# Altium schematic symbol library TMDX654GPEVM.SCHLIB: 339 symbols (part 4 of 6)
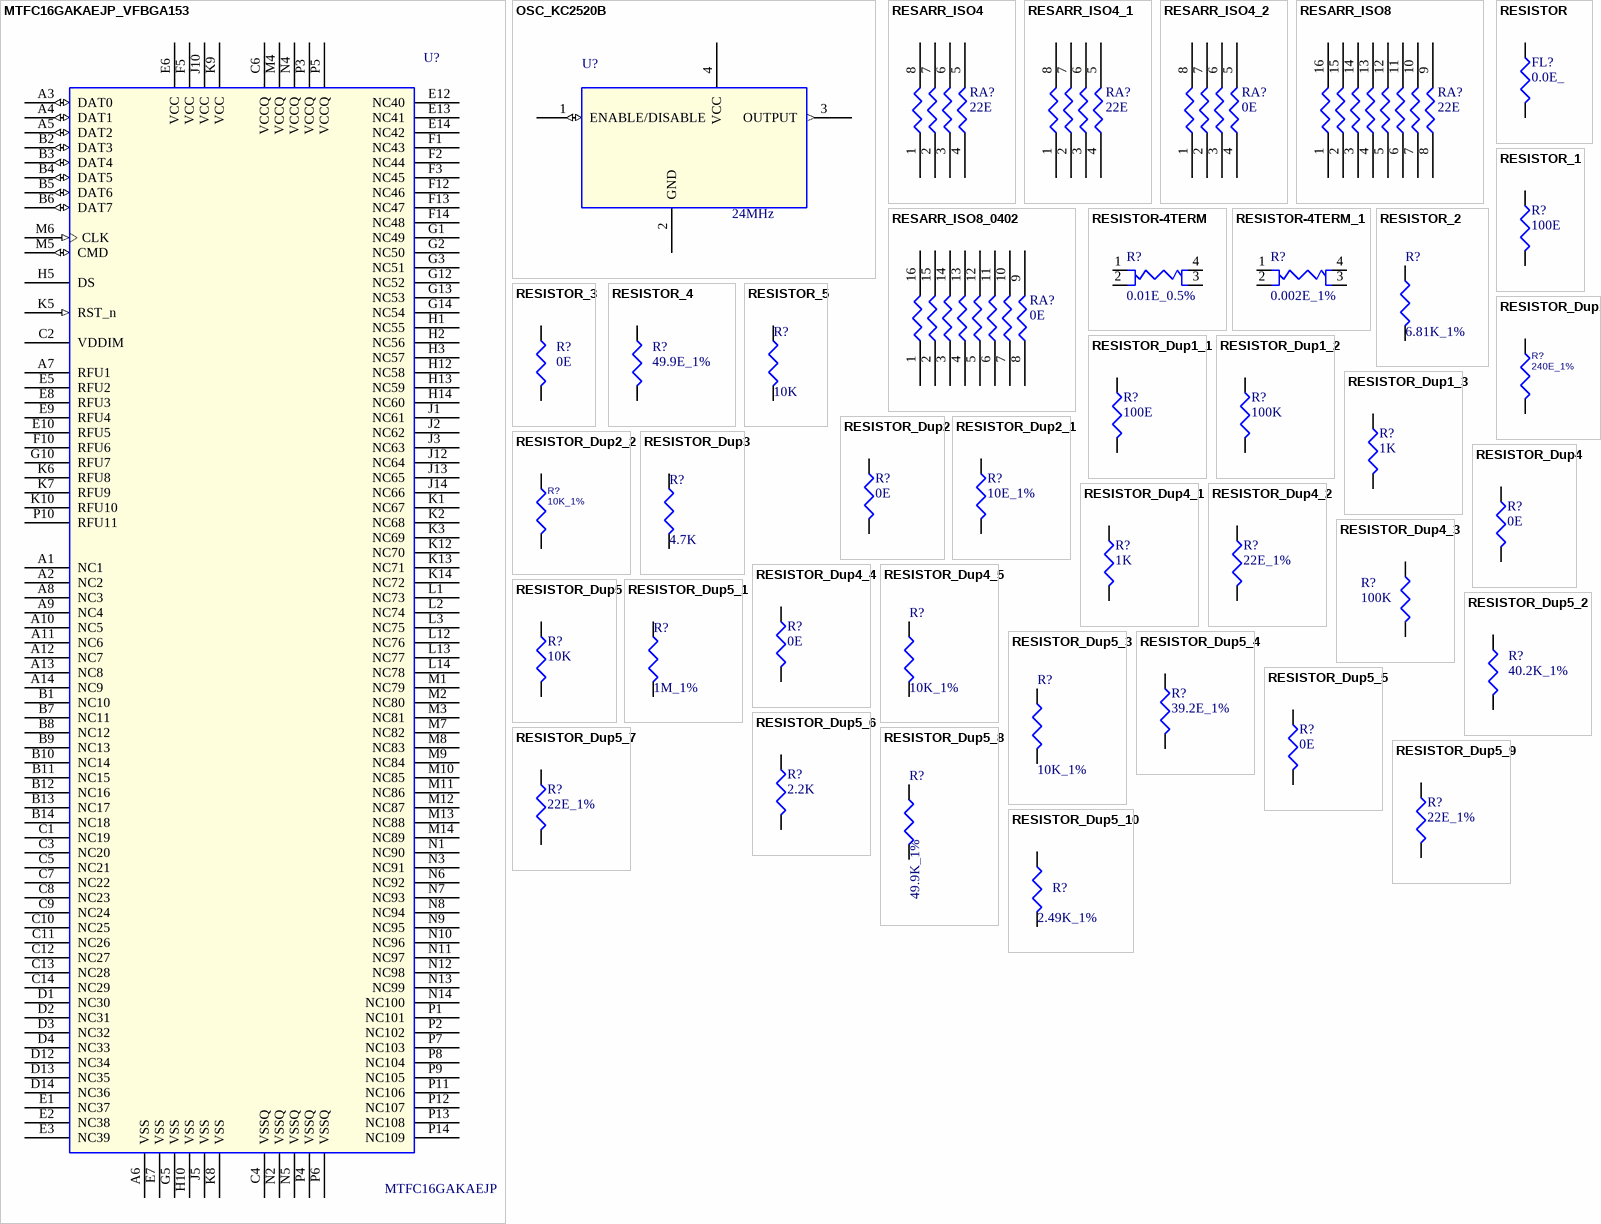
[diagram p23: symbols MTFC16GAKAEJP_VFBGA153 to RESISTOR_Dup5_10]

## MTFC16GAKAEJP_VFBGA153
designator U?, comment MTFC16GAKAEJP
IC 16GB E-MMC MEMORY VFBGA153; Mistral Part No: 141118010003-R; Mfr_name: MICRON; Mfr_part_number: MTFC16GAKAEJP-4M IT; Part_type: ICS\DIGITAL\MEMORY; Project: TI_SVB_MAXWELL_DUT; Tolerance: NA; Customs_HS_Code: 85423100; Custom_Duty: 15%; MECHANICAL 3D STEP FILE: VFBGA153_19-68_460X520_1-2; Library Ref: MTFC16GAKAEJP_VFBGA153; Voltage: NA; Wattage: NA; Package: VFBGA153; Distributor_name: DIGIKEY; Distributor_part_number: MTFC16GAKAEJP-4M IT-ND; Height: 1.20MM; Weight: NA; Temperature: -40°C+85°C; Datasheet: Y:\MIS_DATABASE\DATASHEETS\ICS\MEMORY\MTFCXXGAXX.PDF; Crtd /date: MANIRAJA/120118; Chkd/date: MANIRAJA/120118; PCB Footprint: VFBGA153_19-68_460X520_1-2
footprint VFBGA153_19-68_460X520_1-2
pins: A1 NC1, A2 NC2, A3 DAT0 (io), A4 DAT1 (io), A5 DAT2 (io), A6 VSS (power), A7 RFU1, A8 NC3, A9 NC4, A10 NC5, A11 NC6, A12 NC7, A13 NC8, A14 NC9, B1 NC10, B2 DAT3 (io), B3 DAT4 (io), B4 DAT5 (io), B5 DAT6 (io), B6 DAT7 (io), B7 NC11, B8 NC12, B9 NC13, B10 NC14, B11 NC15, B12 NC16, B13 NC17, B14 NC18, C1 NC19, C2 VDDIM, C3 NC20, C4 VSSQ (power), C5 NC21, C6 VCCQ (power), C7 NC22, C8 NC23, C9 NC24, C10 NC25, C11 NC26, C12 NC27, C13 NC28, C14 NC29, D1 NC30, D2 NC31, D3 NC32, D4 NC33, D12 NC34, D13 NC35, D14 NC36, E1 NC37, E2 NC38, E3 NC39, E5 RFU2, E6 VCC (power), E7 VSS (power), E8 RFU3, E9 RFU4, E10 RFU5, E12 NC40, E13 NC41, E14 NC42, F1 NC43, F2 NC44, F3 NC45, F5 VCC (power), F10 RFU6, F12 NC46, F13 NC47, F14 NC48, G1 NC49, G2 NC50, G3 NC51, G5 VSS (power), G10 RFU7, G12 NC52, G13 NC53, G14 NC54, H1 NC55, H2 NC56, H3 NC57, H5 DS, H10 VSS (power), H12 NC58, H13 NC59, H14 NC60, J1 NC61, J2 NC62, J3 NC63, J5 VSS (power), J10 VCC (power), J12 NC64, J13 NC65, J14 NC66, K1 NC67, K2 NC68, K3 NC69, K5 RST_n (in), K6 RFU8, K7 RFU9, K8 VSS (power), K9 VCC (power), K10 RFU10, K12 NC70, K13 NC71, K14 NC72, L1 NC73, L2 NC74, L3 NC75, L12 NC76, L13 NC77, L14 NC78, M1 NC79, M2 NC80, M3 NC81, M4 VCCQ (power), M5 CMD (io), M6 CLK (in), M7 NC82, M8 NC83, M9 NC84, M10 NC85, M11 NC86, M12 NC87, M13 NC88, M14 NC89, N1 NC90, N2 VSSQ (power), N3 NC91, N4 VCCQ (power), N5 VSSQ (power), N6 NC92, N7 NC93, N8 NC94, N9 NC95, N10 NC96, N11 NC97, N12 NC98, N13 NC99, N14 NC100, P1 NC101, P2 NC102, P3 VCCQ (power), P4 VSSQ (power), P5 VCCQ (power), P6 VSSQ (power), P7 NC103, P8 NC104, P9 NC105, P10 RFU11, P11 NC106, P12 NC107, P13 NC108, P14 NC109

## OSC_KC2520B
designator U?, comment 24MHz
OSC 24MHz 1.8V SMD; Mistral Part No: 130015030022-R; Mfr_name: KYOCERA; Mfr_part_number: KC2520B24.0000C1GE00; Part_type: OSCILLATORS; Project: DLRL; Tolerance: NA; Customs_HS_Code: 85437099; Custom_Duty: 24%; PCB Footprint: OSC4_KC2520B_100X80_SMD; Voltage: NA; Wattage: NA; Package: SMD; Distributor_name: DIGIKEY; Distributor_part_number: 1253-1244-1-ND; Height: 0.70MM; Weight: NA; Temperature: -40°C+85°C; Datasheet: Y:\MIS_DATABASE\DATASHEETS\MISC\CRY_OSC\KC2520B2.PDF; Crtd /date: JEBRAN/310315; Chkd/date: NAVEED/080415; Library Ref: OSC_KC2520B
footprint OSC4_KC2520B_100X80_SMD
pins: 1 ENABLE/DISABLE (io), 2 GND (power), 3 OUTPUT (out), 4 VCC (power)

## RESARR_ISO4
designator RA?, comment 22E
RES ARRAY 22E 31mW 5% 0402; Part_type: RESISTORS\ARRAY; Mfr_part_number: EXB-28V220JX; Mfr_name: PANASONIC-ECG; Mistral Part No: 110009030021-R; PCB Footprint: RESA_EXB28V_0402-4_0-5; Voltage: NA; Project: KHAN_MAIN; SIGNAL_MODEL: RESA1; Library Ref: RESARR_ISO4; MECHANICAL 3D STEP FILE: RESA_EXB28V_0402-4_0-5; Chkd/date: MAZHAR/291208; Crtd /date: USMAN/261108; Datasheet: Y:\MIS_DATABASE\DATASHEETS\RESISTORS\EXB-2HV.PDF; Temperature: -55°C+125°C; Weight: 2mg; Height: 0.45MM; Distributor_part_number: Y7220CT-ND; Distributor_name: DIGIKEY; Package: 0402; Wattage: 31mW; Tolerance: 5%
footprint RESA_EXB28V_0402-4_0-5
pins: 1, 2, 3, 4, 5, 6, 7, 8

## RESARR_ISO4_1
designator RA?, comment 22E
RES ARRAY 22E 31mW 5% 0402; Part_type: RESISTORS\ARRAY; Mfr_part_number: EXB-28V220JX; Mfr_name: PANASONIC-ECG; Mistral Part No: 110009030021-R; MECHANICAL 3D STEP FILE: RESA_EXB28V_0402-4_0-5; Voltage: NA; Project: KHAN_MAIN; Library Ref: RESARR_ISO4; Chkd/date: MAZHAR/291208; Crtd /date: USMAN/261108; Datasheet: Y:\MIS_DATABASE\DATASHEETS\RESISTORS\EXB-2HV.PDF; Temperature: -55°C+125°C; Weight: 2mg; Height: 0.45MM; Distributor_part_number: Y7220CT-ND; Distributor_name: DIGIKEY; Package: 0402; Wattage: 31mW; Tolerance: 5%; PCB Footprint: RESA_EXB28V_0402-4_0-5
footprint RESA_EXB28V_0402-4_0-5
pins: 1, 2, 3, 4, 5, 6, 7, 8

## RESARR_ISO4_2
designator RA?, comment 0E
RES ARRAY 0E 31mW 0402-4; Part_type: RESISTORS\ARRAY; Mfr_part_number: EXB-N8VR000X; Mfr_name: PANASONIC-ECG; Mistral Part No: 110009030002-R; MECHANICAL 3D STEP FILE: RESA_EXBN8V_0402-4_0-6; Tolerance: NA; Project: AXON; Chkd/date: MANIRAJA/161017; Crtd /date: USMAN/190209; Datasheet: Y:\MIS_DATABASE\DATASHEETS\RESISTORS\EXB-X.PDF; Temperature: -55°C+125°C; Weight: 3mg; Height: 0.55MM; Distributor_part_number: Y10000CT-ND; Distributor_name: DIGIKEY; Package: 0402-4; Wattage: 31mW; Voltage: NA; PCB Footprint: RESA_EXBN8V_0402-4_0-6; Library Ref: RESARR_ISO4
footprint RESA_EXBN8V_0402-4_0-6
pins: 1, 2, 3, 4, 5, 6, 7, 8

## RESARR_ISO8
designator RA?, comment 22E
RES ARRAY 22E 62.5mW 5% 0402; Mistral Part No: 110009030020-R; Mfr_name: CTS; Mfr_part_number: 741X163220JP; Part_type: RESISTORS\ARRAY; SIGNAL_MODEL: RESARR_ISO8_RESA_0402-8_22E_22E; Project: CPB; Wattage: 63mW; PCB Footprint: RESA_0402-8; Library Ref: RESARR_ISO8; Tolerance: 5%; Package: 0402; Distributor_name: DIGIKEY; Distributor_part_number: 741X163220JPCT-ND; Height: 0.55MM; Datasheet: Y:\MIS_DATABASE\DATASHEETS\RESISTORS\741-6SER.PDF; Crtd /date: USMAN/040908; Chkd/date: MAZHAR/040809
footprint RESA_0402-8
pins: 1, 2, 3, 4, 5, 6, 7, 8, 9, 10, 11, 12, 13, 14, 15, 16

## RESARR_ISO8_0402
designator RA?, comment 0E
RES ARRAY 8 0E 0402; Part_type: RESISTORS\ARRAY; Mfr_part_number: EXB-2HVR000V; Mfr_name: PANASONIC-ECG; Mistral Part No: 110009030004-R; SIGNAL_MODEL: RESA; Project: V12SFP; PCB Footprint: RESA_0402-8; Library Ref: RESARR_ISO8_0402; Chkd/date: SHREESHAIL/121205; Crtd /date: MAZHAR/300505; Datasheet: Y:\MIS_DATABASE\DATASHEETS\RESISTORS\EXB-2HV.PDF; Height: 0.55MM; Distributor_part_number: Y1000CT-ND; Distributor_name: DIGIKEY; Package: 0402
footprint RESA_0402-8
pins: 1, 2, 3, 4, 5, 6, 7, 8, 9, 10, 11, 12, 13, 14, 15, 16

## RESISTOR
designator FL?, comment 0.0E_
RES 0.0E 1/10W 0603; Mistral Part No: 110010020006-P; Mfr_name: VISHAY; Mfr_part_number: CRCW06030000Z0EA; Part_type: RESISTORS\FIXED; Project: NPOL_CONTROLLERCARD; Voltage: 50V; Customs_HS_Code: 85332119; Custom_Duty: 15%; PCB Footprint: RES0603; Wattage: 1/10W; Package: 0603; Distributor_name: DIGIKEY; Distributor_part_number: 541-0.0GCT-ND; Library Ref: RESISTOR; Height: 0.55MM; Weight: 2g/1000pcs; Temperature: -55°C+125°C; Datasheet: Y:\MIS_DATABASE\DATASHEETS\RESISTORS\CRCW.PDF; Crtd /date: MUDDU/050210; Chkd/date: SUHAS/230910; RoHS: Pb-Free
footprint RES0603
pins: 1, 2

## RESISTOR-4TERM
designator R?, comment 0.01E_0.5%
RES 0.01E 1/2W 0.5% 4-TERM1206; Part_type: RESISTORS\FIXED; Mfr_part_number: LVK12R010DER; Mfr_name: OHMITE; Mistral Part No: 110017090009-R; PCB Footprint: RES1206-4TERM_0-75; Custom_Duty: 15%; Customs_HS_Code: 85332119; Voltage: NA; Project: TI_MAXIE_CPB; MECHANICAL 3D STEP FILE: RES1206-4TERM_0-75; Chkd/date: MANIRAJA/260917; Crtd /date: MANIRAJA/260917; Datasheet: Y:\MIS_DATABASE\DATASHEETS\RESISTORS\LVK-SERIES.PDF; Temperature: -40°C+125°C; Weight: 16.2mg; Height: 0.65MM; Distributor_part_number: LVK12R010DERCT-ND; Distributor_name: DIGIKEY; Package: 1206-4TERM; Wattage: 1/2W; Tolerance: 0.5%; Library Ref: RESISTOR-4TERM
footprint RES1206-4TERM_0-75
pins: 1, 2, 3, 4

## RESISTOR-4TERM_1
designator R?, comment 0.002E_1%
RES 0.002E 2W 1% 4-TERM2512; Mistral Part No: 110017090010-R; Mfr_name: OHMITE; Mfr_part_number: LVK25R002FER; Part_type: RESISTORS\FIXED; PCB Footprint: RES2512-4TERM_0-75; Project: TI_MAXIE_CPB; Voltage: NA; Customs_HS_Code: 85332119; Custom_Duty: 15%; Tolerance: 1%; Wattage: 2W; Package: 2512-4TERM; Distributor_name: DIGIKEY; Distributor_part_number: LVK25R002FERCT-ND; Height: 0.70MM; Weight: NA; Temperature: -40°C+125°C; Datasheet: Y:\MIS_DATABASE\DATASHEETS\RESISTORS\LVK-SERIES.PDF; Crtd /date: MANIRAJA/260917; Chkd/date: MANIRAJA/260917; MECHANICAL 3D STEP FILE: RES2512-4TERM_0-75; Library Ref: RESISTOR-4TERM
footprint RES2512-4TERM_0-75
pins: 1, 2, 3, 4

## RESISTOR_1
designator R?, comment 100E
RES 100E 1/20W 5% 0201; Part_type: RESISTORS\FIXED; Mfr_part_number: NRC02J101TRF; Mfr_name: NIC COMPONENTS; Mistral Part No: 110010070060-R; PCB Footprint: RES0201; Custom_Duty: 15%; Customs_HS_Code: 85332119; Voltage: 50V; Project: PB_BUGBASE; Library Ref: RESISTOR; Chkd/date: SUHAS/280910; Crtd /date: MUDDU/100710; Datasheet: Y:\MIS_DATABASE\DATASHEETS\RESISTORS\NRC SERIES.PDF; Temperature: -55°C+125°C; Weight: NA; Height: 0.30MM; Distributor_part_number: NA; Distributor_name: NA; Package: 0201; Wattage: 1/20W; Tolerance: 5%
footprint RES0201
pins: 1, 2

## RESISTOR_2
designator R?, comment 6.81K_1%
RES 6.81K 1/16W 1% 0402; Part_type: RESISTORS\FIXED; Mfr_part_number: RC0402FR-076K81L; Mfr_name: YAGEO AMERICA; Mistral Part No: 110017100003-R; PCB Footprint: RES0402_0-5; Custom_Duty: 15%; Customs_HS_Code: 85332119; Voltage: NA; Project: TI_MAXIE_CPB; Library Ref: RESISTOR; MECHANICAL 3D STEP FILE: RES0402_0-5; Chkd/date: VASANTHA/181017; Crtd /date: VASANTHA/181017; Datasheet: Y:\MIS_DATABASE\DATASHEETS\RESISTORS\YAGEO-RC0402.PDF; Temperature: -55°C+155°C; Weight: NA; Height: 0.40MM; Distributor_part_number: 311-6.81KLRCT-ND; Distributor_name: DIGIKEY; Package: 0402; Wattage: 1/16W; Tolerance: 1%
footprint RES0402_0-5
pins: 1, 2

## RESISTOR_3
designator R?, comment 0E
RES 0E 1/16W 0402; Mistral Part No: 110010080019-P; Mfr_name: VISHAY; Mfr_part_number: CRCW04020000Z0ED; Part_type: RESISTORS\FIXED; Project: PB_BUGBASE; Tolerance: NA; Customs_HS_Code: 85332119; Custom_Duty: 15%; MECHANICAL 3D STEP FILE: RES0402_0-5; Voltage: NA; Wattage: 1/16W; Package: 0402; Distributor_name: DIGIKEY; Distributor_part_number: 541-0.0JCT-ND; Height: 0.40MM; Weight: 0.65g/1000pcs; Temperature: -55°C+155°C; Datasheet: Y:\MIS_DATABASE\DATASHEETS\RESISTORS\CRCW0603.PDF; Crtd /date: MUDDU/190810; Chkd/date: VASANTHA/201216; RoHS: Pb-Free; PCB Footprint: RES0402_0-5; Library Ref: RESISTOR; Footprint Ref: RES0402_0-5; Library Path: Y:\MIS_DATABASE\Library\ALTIUM_TOOL\SCHEMATICS_PARTS\MS_DISCRETE_Library.schlib; Footprint Path: Y:\MIS_DATABASE\Library\ALTIUM_TOOL\PCB_FOOTPRINTS\Altium_Footprint_Lib.PcbLib
footprint RES0402_0-5
pins: 1, 2

## RESISTOR_4
designator R?, comment 49.9E_1%
RES 49.9E 1/20W 1% 0201; Part_type: RESISTORS\FIXED; Mfr_part_number: ERJ-1GEF49R9C; Mfr_name: PANASONIC-ECG; Mistral Part No: 110009030893-R; Custom_Duty: 15%; Customs_HS_Code: 85332119; Project: V8TS; PCB Footprint: RES0201; Footprint Path: Y:\MIS_DATABASE\Library\ALTIUM_TOOL\PCB_FOOTPRINTS\Altium_Footprint_Lib.PcbLib; Library Path: Y:\MIS_DATABASE\Library\ALTIUM_TOOL\SCHEMATICS_PARTS\MS_DISCRETE_Library.schlib; Chkd/date: MAZHAR/140709; Crtd /date: MAZHAR/300807; Datasheet: Y:\MIS_DATABASE\DATASHEETS\RESISTORS\ERJ-1G.PDF; Height: 0.26MM; Distributor_part_number: P49.9ABCT-ND; Distributor_name: DIGIKEY; Package: 0201; Wattage: 1/20W; Tolerance: 1%; Library Ref: RESISTOR
footprint RES0201
pins: 1, 2

## RESISTOR_5
designator R?, comment 10K
RES 10K 2/3W 5% 1206; Part_type: RESISTORS\FIXED; Mfr_part_number: ERJ-P08J103V; Mfr_name: PANASONIC; Mistral Part No: 110015090016-R; PCB Footprint: RES1206; Custom_Duty: 15%; Customs_HS_Code: 85332119; Voltage: NA; Project: GALILEO_EVM; Library Ref: RESISTOR; Chkd/date: VASANTHA/101015; Crtd /date: VASANTHA/101015; Datasheet: Y:\MIS_DATABASE\DATASHEETS\RESISTORS\ERJ_SERIES.PDF; Temperature: -55°C+155°C; Weight: 10g/1000pcs; Height: 0.70MM; Distributor_part_number: P10KALCT-ND; Distributor_name: DIGIKEY; Package: 1206; Wattage: 2/3W; Tolerance: 5%
footprint RES1206
pins: 1, 2

## RESISTOR_Dup1
designator R?, comment 240E_1%
RES 240E 1/10W 1% 0402; Mistral Part No: 110011060017-R; Mfr_name: PANASONIC-ECG; Mfr_part_number: ERJ-2RKF2400X; Part_type: RESISTORS\FIXED; Project: AM4515_EVM_LCD; Voltage: NA; Customs_HS_Code: 85332119; Custom_Duty: 15%; PCB Footprint: RES0402; Library Ref: RESISTOR; Tolerance: 1%; Wattage: 1/10W; Package: 0402; Distributor_name: DIGIKEY; Distributor_part_number: P240LCT-ND; Height: 0.40MM; Weight: 0.8/1000g; Temperature: -55°C+125°C; Datasheet: Y:\MIS_DATABASE\DATASHEETS\RESISTORS\ERJ-2R.PDF; Crtd /date: BAVISH/020611; Chkd/date: MAZHAR/150611
footprint RES0402N
footprint RES0402
pins: 1, 2

## RESISTOR_Dup1_1
designator R?, comment 100E
RES 100E 1/16W 5% 0402; Part_type: RESISTORS\FIXED; Mfr_part_number: CRCW0402100RJNED; Mfr_name: VISHAY; Mistral Part No: 110009030164-R; MECHANICAL 3D STEP FILE: RES0402_0-5; Custom_Duty: 15%; Customs_HS_Code: 85332119; Voltage: NA; Project: TI_MAXIE_CPB; Library Ref: RESISTOR; Chkd/date: MANIRAJA/230817; Crtd /date: MANIRAJA/230817; Datasheet: Y:\MIS_DATABASE\DATASHEETS\RESISTORS\CRCW0603.PDF; Temperature: -55°C+155°C; Weight: 0.65mg; Height: 0.40MM; Distributor_part_number: 541-100JCT-ND; Distributor_name: DIGIKEY; Package: 0402; Wattage: 1/16W; Tolerance: 5%; PCB Footprint: RES0402_0-5
footprint RES0402N
footprint RES0402_0-5
pins: 1, 2

## RESISTOR_Dup1_2
designator R?, comment 100K
RES 100K 1/16W 5% 0402; Part_type: RESISTORS\FIXED; Mfr_part_number: CRCW0402100KJNED; Mfr_name: VISHAY; Mistral Part No: 110011060002-R; Custom_Duty: 15%; Customs_HS_Code: 85332119; Project: AM4515_EVM_LCD; Voltage: NA; PCB Footprint: RES0402_0-5; Library Ref: RESISTOR; Chkd/date: VASANTHA/061216; Crtd /date: BAVISH/010611; Datasheet: Y:\MIS_DATABASE\DATASHEETS\RESISTORS\CRCW0603.PDF; Height: 0.40MM; Distributor_part_number: 541-100KJCT-ND; Distributor_name: DIGIKEY; Package: 0402; Wattage: 1/16W; Tolerance: 5%; Weight: 0.65mg; Temperature: -55°C+155°C; MECHANICAL 3D STEP FILE: RES0402_0-5
footprint RES0402N
footprint RES0402_0-5
pins: 1, 2

## RESISTOR_Dup1_3
designator R?, comment 1K
RES 1K 1/20W 5% 0201; Part_type: RESISTORS\FIXED; Mfr_part_number: CRCW02011K00FKED; Mfr_name: VISHAY; Mistral Part No: 110015080014-R; Custom_Duty: 15%; Customs_HS_Code: 85332119; Project: OCTASIC_3000; Voltage: NA; PCB Footprint: RES0201; Library Ref: RESISTOR; Chkd/date: JEBRAN/110815; Crtd /date: JEBRAN/110815; Datasheet: Y:\MIS_DATABASE\DATASHEETS\RESISTORS\CRCW0201.PDF; Height: 0.28MM; Distributor_part_number: 541-1.00KAABCT-ND; Distributor_name: DIGIKEY; Package: 0201; Wattage: 1/20W; Tolerance: 5%; Weight: NA; Temperature: -55°C+155°C
footprint RES0402N
footprint RES0201
pins: 1, 2

## RESISTOR_Dup2
designator R?, comment 0E
RES 0E 1/16W 0402; Part_type: RESISTORS\FIXED; Mfr_part_number: CRCW04020000Z0ED; Mfr_name: VISHAY; Mistral Part No: 110010080019-P; PCB Footprint: RES0402_0-5; Custom_Duty: 15%; Customs_HS_Code: 85332119; Tolerance: NA; Project: PB_BUGBASE; Footprint Path: Y:\MIS_DATABASE\Library\ALTIUM_TOOL\PCB_FOOTPRINTS\Altium_Footprint_Lib.PcbLib; Library Path: Y:\MIS_DATABASE\Library\ALTIUM_TOOL\SCHEMATICS_PARTS\MS_DISCRETE_Library.schlib; Footprint Ref: RES0402_0-5; Library Ref: RESISTOR; RoHS: Pb-Free; Chkd/date: VASANTHA/201216; Crtd /date: MUDDU/190810; Datasheet: Y:\MIS_DATABASE\DATASHEETS\RESISTORS\CRCW0603.PDF; Height: 0.40MM; Distributor_part_number: 541-0.0JCT-ND; Distributor_name: DIGIKEY; Package: 0402; Wattage: 1/16W; Voltage: NA; Weight: 0.65g/1000pcs; Temperature: -55°C+155°C; MECHANICAL 3D STEP FILE: RES0402_0-5
footprint RES0402N
footprint RES0402_0-5
pins: 1, 2

## RESISTOR_Dup2_1
designator R?, comment 10E_1%
RES 10E 1/16W 1% 0402; Part_type: RESISTORS\FIXED; Mfr_part_number: RC0402FR-0710RL; Mfr_name: YAGEO AMERICA; Mistral Part No: 110018020004-R; PCB Footprint: RES0402_0-5; Custom_Duty: 15%; Customs_HS_Code: 85332119; Project: TI_MAXIE_CPB; Voltage: NA; Library Ref: RESISTOR; Chkd/date: MANIRAJA/070218; Crtd /date: ALVY/070218; Datasheet: Y:\MIS_DATABASE\DATASHEETS\RESISTORS\YAGEO-RC0402.PDF; Height: 0.40MM; Distributor_part_number: 311-10.0LRCT-ND; Distributor_name: DIGIKEY; Package: 0402; Wattage: 1/16W; Tolerance: 1%; Weight: 0.65mg; Temperature: -55°C+155°C; MECHANICAL 3D STEP FILE: RES0402_0-5
footprint RES0402N
footprint RES0402_0-5
pins: 1, 2

## RESISTOR_Dup2_2
designator R?, comment 10K_1%
RES 10K 1/16W 1% 0402; Mistral Part No: 110009030220-P; Mfr_name: YAGEO AMERICA; Mfr_part_number: RC0402FR-0710KL; Part_type: RESISTORS\FIXED; Project: VOCERA; Customs_HS_Code: 85332119; Custom_Duty: 15%; Voltage: NA; PCB Footprint: RES0402_0-5; Tolerance: 1%; Wattage: 1/16W; Package: 0402; Distributor_name: DIGIKEY; Distributor_part_number: 311-10.0KLRTR-ND; Height: 0.40MM; Datasheet: Y:\MIS_DATABASE\DATASHEETS\RESISTORS\YAGEO-RC0402.PDF; Crtd /date: GEETHA/290506; Chkd/date: VASANTHA/201216; RoHS: Pb-Free; Weight: 0.65mg; Temperature: -55°C+155°C; MECHANICAL 3D STEP FILE: RES0402_0-5; Library Ref: RESISTOR; Footprint Ref: RES0402_0-5; Library Path: Y:\MIS_DATABASE\Library\ALTIUM_TOOL\SCHEMATICS_PARTS\MS_DISCRETE_Library.schlib; Footprint Path: Y:\MIS_DATABASE\Library\ALTIUM_TOOL\PCB_FOOTPRINTS\Altium_Footprint_Lib.PcbLib
footprint RES0402N
footprint RES0402_0-5
pins: 1, 2

## RESISTOR_Dup3
designator R?, comment 4.7K
RES 4.7K 1/16W 5% 0402; Part_type: RESISTORS\FIXED; Mfr_part_number: RC0402JR-074K7L; Mfr_name: YAGEO AMERICA; Mistral Part No: 110009030792-R; Custom_Duty: 15%; Customs_HS_Code: 85332119; Voltage: NA; Project: TMDXCSK368; PCB Footprint: RES0402; Chkd/date: VASANTHA/130516; Crtd /date: VASANTHA/130516; Datasheet: Y:\MIS_DATABASE\DATASHEETS\RESISTORS\YAGEO-RC0402.PDF; Temperature: -55°C+155°C; Weight: NA; Height: 0.55MM; Distributor_part_number: 311-4.7KJRCT-ND; Distributor_name: DIGIKEY; Package: 0402; Wattage: 1/16W; Tolerance: 5%; Library Ref: RESISTOR
footprint RES0402
pins: 1, 2

## RESISTOR_Dup4
designator R?, comment 0E
RES 0E 1/16W 0402; Part_type: RESISTORS\FIXED; Mfr_part_number: CRCW04020000Z0ED; Mfr_name: VISHAY; Mistral Part No: 110010080019-P; Custom_Duty: 15%; Customs_HS_Code: 85332119; Voltage: NA; Project: PB_BUGBASE; MECHANICAL 3D STEP FILE: RES0402_0-5; Footprint Path: Y:\MIS_DATABASE\Library\ALTIUM_TOOL\PCB_FOOTPRINTS\Altium_Footprint_Lib.PcbLib; Library Path: Y:\MIS_DATABASE\Library\ALTIUM_TOOL\SCHEMATICS_PARTS\MS_DISCRETE_Library.schlib; Footprint Ref: RES0402_0-5; Library Ref: RESISTOR; RoHS: Pb-Free; Chkd/date: VASANTHA/201216; Crtd /date: MUDDU/190810; Datasheet: Y:\MIS_DATABASE\DATASHEETS\RESISTORS\CRCW0603.PDF; Temperature: -55°C+155°C; Weight: 0.65g/1000pcs; Height: 0.40MM; Distributor_part_number: 541-0.0JCT-ND; Distributor_name: DIGIKEY; Package: 0402; Wattage: 1/16W; Tolerance: NA; PCB Footprint: RES0402_0-5
footprint RES0402_0-5
pins: 1, 2

## RESISTOR_Dup4_1
designator R?, comment 1K
RES 1K 1/20W 5% 0201; Mistral Part No: 110015080014-R; Mfr_name: VISHAY; Mfr_part_number: CRCW02011K00FKED; Part_type: RESISTORS\FIXED; Project: OCTASIC_3000; Voltage: NA; Customs_HS_Code: 85332119; Custom_Duty: 15%; PCB Footprint: RES0201; Library Ref: RESISTOR; Tolerance: 5%; Wattage: 1/20W; Package: 0201; Distributor_name: DIGIKEY; Distributor_part_number: 541-1.00KAABCT-ND; Height: 0.28MM; Weight: NA; Temperature: -55°C+155°C; Datasheet: Y:\MIS_DATABASE\DATASHEETS\RESISTORS\CRCW0201.PDF; Crtd /date: JEBRAN/110815; Chkd/date: JEBRAN/110815
footprint RES0201
pins: 1, 2

## RESISTOR_Dup4_2
designator R?, comment 22E_1%
RES 22E 1/16W 1% 0402; Cust_part_number: 4700-80047E; Alternate_mfr_part_number_A: CRCW040222R0FKED; Alternate_mfr_name_A: VISHAY; Part_type: RESISTORS\FIXED; Mfr_part_number: RC0402FR-0722RL; Mfr_name: YAGEO AMERICA; Mistral Part No: 110009090004-P; Remarks: In alternate datasheet it is RoHS COMPLIANT. Y:\MIS_DATABASE\DATASHEETS\RESISTORS\CRCW0402.PDF; Custom_Duty: 15%; Customs_HS_Code: 85332119; Voltage: 50V; Project: VMEFMCD; SIGNAL_MODEL: RESISTOR_RES0402_22E_22E; PCB Footprint: RES0402; Library Ref: RESISTOR; RoHS: Pb-Free; Chkd/date: SUHAS/290910; Crtd /date: MAZHAR/090909; Datasheet: Y:\MIS_DATABASE\DATASHEETS\RESISTORS\YAGEO-RC0402.PDF; Temperature: -55°C+155°C; Weight: 0.8g/1000pcs; Height: 0.40MM; Distributor_part_number_A: 541-22.0LCT-ND; Distributor_name_A: DIGIKEY; Distributor_part_number: 311-22.0LRCT-ND; Distributor_name: DIGIKEY; Package: 0402; Wattage: 1/16W; Tolerance: 1%
footprint RES0402
pins: 1, 2

## RESISTOR_Dup4_3
designator R?, comment 100K
RES 100K 1/16W 5% 0402; Mistral Part No: 110011060002-R; Mfr_name: VISHAY; Mfr_part_number: CRCW0402100KJNED; Part_type: RESISTORS\FIXED; MECHANICAL 3D STEP FILE: RES0402_0-5; Project: AM4515_EVM_LCD; Voltage: NA; Customs_HS_Code: 85332119; Custom_Duty: 15%; Library Ref: RESISTOR; Tolerance: 5%; Wattage: 1/16W; Package: 0402; Distributor_name: DIGIKEY; Distributor_part_number: 541-100KJCT-ND; Height: 0.40MM; Weight: 0.65mg; Temperature: -55°C+155°C; Datasheet: Y:\MIS_DATABASE\DATASHEETS\RESISTORS\CRCW0603.PDF; Crtd /date: BAVISH/010611; Chkd/date: VASANTHA/061216; PCB Footprint: RES0402_0-5
footprint RES0402_0-5
pins: 1, 2

## RESISTOR_Dup4_4
designator R?, comment 0E
RES 0E 1/16W 0402; Part_type: RESISTORS\FIXED; Mfr_part_number: CRCW04020000Z0ED; Mfr_name: VISHAY; Mistral Part No: 110010080019-P; MECHANICAL 3D STEP FILE: RES0402_0-5; Custom_Duty: 15%; Customs_HS_Code: 85332119; Voltage: NA; Project: PB_BUGBASE; Footprint Path: Y:\MIS_DATABASE\Library\ALTIUM_TOOL\PCB_FOOTPRINTS\Altium_Footprint_Lib.PcbLib; Library Path: Y:\MIS_DATABASE\Library\ALTIUM_TOOL\SCHEMATICS_PARTS\MS_DISCRETE_Library.schlib; Footprint Ref: RES0402_0-5; Library Ref: RESISTOR; SIGNAL_MODEL: RES; RoHS: Pb-Free; Chkd/date: VASANTHA/201216; Crtd /date: MUDDU/190810; Datasheet: Y:\MIS_DATABASE\DATASHEETS\RESISTORS\CRCW0603.PDF; Temperature: -55°C+155°C; Weight: 0.65g/1000pcs; Height: 0.40MM; Distributor_part_number: 541-0.0JCT-ND; Distributor_name: DIGIKEY; Package: 0402; Wattage: 1/16W; Tolerance: NA; PCB Footprint: RES0402_0-5
footprint RES0402_0-5
pins: 1, 2

## RESISTOR_Dup4_5
designator R?, comment 10K_1%
RES 10K 1/16W 1% 0402; Part_type: RESISTORS\FIXED; Mfr_part_number: RC0402FR-0710KL; Mfr_name: YAGEO AMERICA; Mistral Part No: 110009030220-P; PCB Footprint: RES0402_0-5; Custom_Duty: 15%; Customs_HS_Code: 85332119; Project: VOCERA; Voltage: NA; Footprint Path: Y:\MIS_DATABASE\Library\ALTIUM_TOOL\PCB_FOOTPRINTS\Altium_Footprint_Lib.PcbLib; Library Path: Y:\MIS_DATABASE\Library\ALTIUM_TOOL\SCHEMATICS_PARTS\MS_DISCRETE_Library.schlib; Footprint Ref: RES0402_0-5; Library Ref: RESISTOR; RoHS: Pb-Free; Chkd/date: VASANTHA/201216; Crtd /date: GEETHA/290506; Datasheet: Y:\MIS_DATABASE\DATASHEETS\RESISTORS\YAGEO-RC0402.PDF; Height: 0.40MM; Distributor_part_number: 311-10.0KLRTR-ND; Distributor_name: DIGIKEY; Package: 0402; Wattage: 1/16W; Tolerance: 1%; Weight: 0.65mg; Temperature: -55°C+155°C; MECHANICAL 3D STEP FILE: RES0402_0-5
footprint RES0402_0-5
pins: 1, 2

## RESISTOR_Dup5
designator R?, comment 10K
RES 10K 1/16W 5% 0402; Part_type: RESISTORS\FIXED; Mfr_part_number: RC0402JR-0710KL; Mfr_name: YAGEO AMERICA; Mistral Part No: 110009030208-R; MECHANICAL 3D STEP FILE: RES0402_0-5; Custom_Duty: 15%; Customs_HS_Code: 85332119; Voltage: NA; Project: HSE; Footprint Path: Y:\MIS_DATABASE\Library\ALTIUM_TOOL\PCB_FOOTPRINTS\Altium_Footprint_Lib.PcbLib; Library Path: Y:\MIS_DATABASE\Library\ALTIUM_TOOL\SCHEMATICS_PARTS\MS_DISCRETE_Library.schlib; Footprint Ref: RES0402_0-5; Library Ref: RESISTOR; RoHS: Pb-Free; Chkd/date: VASANTHA/061216; Crtd /date: MAZHAR/230805; Datasheet: Y:\MIS_DATABASE\DATASHEETS\RESISTORS\YAGEO-RC0402.PDF; Temperature: -55°C+155°C; Weight: 0.65mg; Height: 0.40MM; Distributor_part_number: 311-10KJRCT-ND; Distributor_name: DIGIKEY; Package: 0402; Wattage: 1/16W; Tolerance: 5%; PCB Footprint: RES0402_0-5
footprint RES0402_0-5
pins: 1, 2

## RESISTOR_Dup5_1
designator R?, comment 1M_1%
RES 1M 1/16W 1% 0402; Mistral Part No: 110014060045-R; Mfr_name: STACKPOLE ELECTRONICS; Mfr_part_number: RMCF0402FT1M00; Part_type: RESISTORS\FIXED; Project: AEGIS_POM; Voltage: NA; Customs_HS_Code: 85332119; Custom_Duty: 15%; PCB Footprint: RES0402; Footprint Path: Y:\MIS_DATABASE\Library\ALTIUM_TOOL\PCB_FOOTPRINTS\Altium_Footprint_Lib.PcbLib; Library Path: Y:\MIS_DATABASE\Library\ALTIUM_TOOL\SCHEMATICS_PARTS\MS_DISCRETE_Library.schlib; Footprint Ref: RES0402; Library Ref: RESISTOR; Tolerance: 1%; Wattage: 1/16W; Package: 0402; Distributor_name: DIGIKEY; Distributor_part_number: RMCF0402FT1M00CT-ND; Height: 0.40MM; Weight: 0.57mg; Temperature: -55°C+155°C; Datasheet: Y:\MIS_DATABASE\DATASHEETS\RESISTORS\RMCF-SERIES1.PDF; Crtd /date: NAVEED/170614; Chkd/date: VASANTHA/200614
footprint RES0402
pins: 1, 2

## RESISTOR_Dup5_2
designator R?, comment 40.2K_1%
RES 40.2K 1/16W 1% 0402; Part_type: RESISTORS\FIXED; Mfr_part_number: RC0402FR-0740K2L; Mfr_name: YAGEO AMERICA; Mistral Part No: 110009030811; PCB Footprint: RES0402_0-5; Custom_Duty: 15%; Customs_HS_Code: 85332119; Voltage: NA; Project: G4SLIM; Footprint Path: Y:\MIS_DATABASE\Library\ALTIUM_TOOL\PCB_FOOTPRINTS\Altium_Footprint_Lib.PcbLib; Library Path: Y:\MIS_DATABASE\Library\ALTIUM_TOOL\SCHEMATICS_PARTS\MS_DISCRETE_Library.schlib; MECHANICAL 3D STEP FILE: RES0402_0-5; Chkd/date: VASANTHA/291216; Crtd /date: MAZHAR/170505; Datasheet: Y:\MIS_DATABASE\DATASHEETS\RESISTORS\YAGEO_RES.PDF; Temperature: -55°C+155°C; Weight: 0.65mg; Height: 0.40MM; Library Ref: RESISTOR; Distributor_part_number: 311-40.2KLRDKR-ND; Distributor_name: DIGIKEY; Package: 0402; Wattage: 1/16W; Tolerance: 1%; Footprint Ref: RES0402_0-5
footprint RES0402_0-5
pins: 1, 2

## RESISTOR_Dup5_3
designator R?, comment 10K_1%
RES 10K 1/16W 1% 0402; Part_type: RESISTORS\FIXED; Mfr_part_number: RC0402FR-0710KL; Mfr_name: YAGEO AMERICA; Mistral Part No: 110009030220-P; MECHANICAL 3D STEP FILE: RES0402_0-5; Custom_Duty: 15%; Customs_HS_Code: 85332119; Voltage: NA; Project: VOCERA; Footprint Path: Y:\MIS_DATABASE\Library\ALTIUM_TOOL\PCB_FOOTPRINTS\Altium_Footprint_Lib.PcbLib; Library Path: Y:\MIS_DATABASE\Library\ALTIUM_TOOL\SCHEMATICS_PARTS\MS_DISCRETE_Library.schlib; Footprint Ref: RES0402_0-5; Library Ref: RESISTOR; PCB Footprint: RES0402_0-5; RoHS: Pb-Free; Chkd/date: VASANTHA/201216; Crtd /date: GEETHA/290506; Datasheet: Y:\MIS_DATABASE\DATASHEETS\RESISTORS\YAGEO-RC0402.PDF; Temperature: -55°C+155°C; Weight: 0.65mg; Height: 0.40MM; Distributor_part_number: 311-10.0KLRTR-ND; Distributor_name: DIGIKEY; Package: 0402; Wattage: 1/16W; Tolerance: 1%
footprint RES0402_0-5
pins: 1, 2

## RESISTOR_Dup5_4
designator R?, comment 39.2E_1%
RES 39.2E 1/16W 1% 0402; Part_type: RESISTORS\FIXED; Mfr_part_number: RMCF0402FT39R2; Mfr_name: STACKPOLE ELECTRONICS; Mistral Part No: 110011040030-R; Custom_Duty: 15%; Customs_HS_Code: 85332119; Voltage: NA; Project: AOD_POD-BASECARD; PCB Footprint: RES0402; Library Ref: RESISTOR; Chkd/date: RAGESH/210411; Crtd /date: MAZHAR/210411; Datasheet: Y:\MIS_DATABASE\DATASHEETS\RESISTORS\RMCF-SERIES.PDF; Temperature: -55°C+155°C; Weight: NA; Height: 0.40MM; Distributor_part_number: RMCF0402FT39R2CT-ND; Distributor_name: DIGIKEY; Package: 0402; Wattage: 1/16W; Tolerance: 1%
footprint RES0402
pins: 1, 2

## RESISTOR_Dup5_5
designator R?, comment 0E
RES 0E 1/16W 0402; Mistral Part No: 110010080019-P; Mfr_name: VISHAY; Mfr_part_number: CRCW04020000Z0ED; Part_type: RESISTORS\FIXED; PCB Footprint: RES0402_0-5; Project: PB_BUGBASE; Tolerance: NA; Customs_HS_Code: 85332119; Custom_Duty: 15%; Footprint Path: Y:\MIS_DATABASE\Library\ALTIUM_TOOL\PCB_FOOTPRINTS\Altium_Footprint_Lib.PcbLib; Library Path: Y:\MIS_DATABASE\Library\ALTIUM_TOOL\SCHEMATICS_PARTS\MS_DISCRETE_Library.schlib; Footprint Ref: RES0402_0-5; Library Ref: RESISTOR; Voltage: NA; Wattage: 1/16W; Package: 0402; Distributor_name: DIGIKEY; Distributor_part_number: 541-0.0JCT-ND; Height: 0.40MM; Weight: 0.65g/1000pcs; Temperature: -55°C+155°C; Datasheet: Y:\MIS_DATABASE\DATASHEETS\RESISTORS\CRCW0603.PDF; Crtd /date: MUDDU/190810; Chkd/date: VASANTHA/201216; RoHS: Pb-Free; MECHANICAL 3D STEP FILE: RES0402_0-5
footprint RES0402_0-5
pins: 1, 2

## RESISTOR_Dup5_6
designator R?, comment 2.2K
RES 2.2K 1/16W 5% 0402; Part_type: RESISTORS\FIXED; Mfr_part_number: RC0402JR-072K2L; Mfr_name: YAGEO AMERICA; Mistral Part No: 110010120018-R; PCB Footprint: RES0402_0-5; Custom_Duty: 15%; Customs_HS_Code: 85332119; Voltage: NA; Project: TE4; Library Ref: RESISTOR; MECHANICAL 3D STEP FILE: RES0402_0-5; Chkd/date: VASANTHA/061216; Crtd /date: BAVISH/021210; Datasheet: Y:\MIS_DATABASE\DATASHEETS\RESISTORS\YAGEO.PDF; Temperature: -55°C+155°C; Weight: 0.65mg; Height: 0.40MM; Distributor_part_number: 311-2.2KJRCT-ND; Distributor_name: DIGIKEY; Package: 0402; Wattage: 1/16W; Tolerance: 5%; Footprint Path: VALUE IS VAILABLE 3 TIMES
footprint RES0402_0-5
pins: 1, 2

## RESISTOR_Dup5_7
designator R?, comment 22E_1%
RES 22E 1/16W 1% 0402; Mistral Part No: 110009090004-P; Mfr_name: YAGEO AMERICA; Mfr_part_number: RC0402FR-0722RL; Part_type: RESISTORS\FIXED; Alternate_mfr_name_A: VISHAY; Alternate_mfr_part_number_A: CRCW040222R0FKED; Cust_part_number: 4700-80047E; Project: VMEFMCD; Voltage: 50V; Customs_HS_Code: 85332119; Custom_Duty: 15%; Remarks: In alternate datasheet it is RoHS COMPLIANT. Y:\MIS_DATABASE\DATASHEETS\RESISTORS\CRCW0402.PDF; PCB Footprint: RES0402; Library Ref: RESISTOR; Tolerance: 1%; Wattage: 1/16W; Package: 0402; Distributor_name: DIGIKEY; Distributor_part_number: 311-22.0LRCT-ND; Distributor_name_A: DIGIKEY; Distributor_part_number_A: 541-22.0LCT-ND; Height: 0.40MM; Weight: 0.8g/1000pcs; Temperature: -55°C+155°C; Datasheet: Y:\MIS_DATABASE\DATASHEETS\RESISTORS\YAGEO-RC0402.PDF; Crtd /date: MAZHAR/090909; Chkd/date: SUHAS/290910; RoHS: Pb-Free
footprint RES0402
pins: 1, 2

## RESISTOR_Dup5_8
designator R?, comment 49.9K_1%
RES 49.9K1/16W 1% 0402; Mistral Part No: 110009030904-P; Mfr_name: YAGEO AMERICA; Mfr_part_number: RC0402FR-0749K9L; Part_type: RESISTORS\FIXED; Project: PNAV; Wattage: 1/16W; Customs_HS_Code: 85332119; Custom_Duty: 15%; PCB Footprint: RES0402; Library Ref: RESISTOR; Tolerance: 1%; Package: 0402; Distributor_name: DIGIKEY; Distributor_part_number: 311-49.9KLRCT-ND; Height: 0.40MM; Datasheet: Y:\MIS_DATABASE\DATASHEETS\RESISTORS\YAGEO-RC0402.PDF; Crtd /date: GEETHA/090606; Chkd/date: MAZHAR/220709; RoHS: Pb-Free
footprint RES0402
pins: 1, 2

## RESISTOR_Dup5_9
designator R?, comment 22E_1%
RES 22E 1/16W 1% 0402; Cust_part_number: 4700-80047E; Alternate_mfr_part_number_A: CRCW040222R0FKED; Alternate_mfr_name_A: VISHAY; Part_type: RESISTORS\FIXED; Mfr_part_number: RC0402FR-0722RL; Mfr_name: YAGEO AMERICA; Mistral Part No: 110009090004-P; PCB Footprint: RES0402; Remarks: In alternate datasheet it is RoHS COMPLIANT. Y:\MIS_DATABASE\DATASHEETS\RESISTORS\CRCW0402.PDF; Custom_Duty: 15%; Customs_HS_Code: 85332119; Voltage: 50V; Project: VMEFMCD; Library Ref: RESISTOR; RoHS: Pb-Free; Chkd/date: SUHAS/290910; Crtd /date: MAZHAR/090909; Datasheet: Y:\MIS_DATABASE\DATASHEETS\RESISTORS\YAGEO-RC0402.PDF; Temperature: -55°C+155°C; Weight: 0.8g/1000pcs; Height: 0.40MM; Distributor_part_number_A: 541-22.0LCT-ND; Distributor_name_A: DIGIKEY; Distributor_part_number: 311-22.0LRCT-ND; Distributor_name: DIGIKEY; Package: 0402; Wattage: 1/16W; Tolerance: 1%; SIGNAL_MODEL: RES
footprint RES0402
pins: 1, 2

## RESISTOR_Dup5_10
designator R?, comment 2.49K_1%
RES 2.49K 1/16W 1% 0402; Mistral Part No: 110016050020-R; Mfr_name: YAGEO AMERICA; Mfr_part_number: RC0402FR-072K49L; Part_type: RESISTORS\FIXED; Project: TMDXCSKCC; Voltage: NA; Customs_HS_Code: 85332119; Custom_Duty: 15%; PCB Footprint: RES0402; Library Ref: RESISTOR; Tolerance: 1%; Wattage: 1/16W; Package: 0402; Distributor_name: DIGIKEY; Distributor_part_number: 311-2.49KLRCT-ND; Height: 0.40MM; Weight: NA; Temperature: -55°C+155°C; Datasheet: Y:\MIS_DATABASE\DATASHEETS\RESISTORS\RC0402FR.PDF; Crtd /date: VASANTHA/270516; Chkd/date: VASANTHA/270516
footprint RES0402
pins: 1, 2

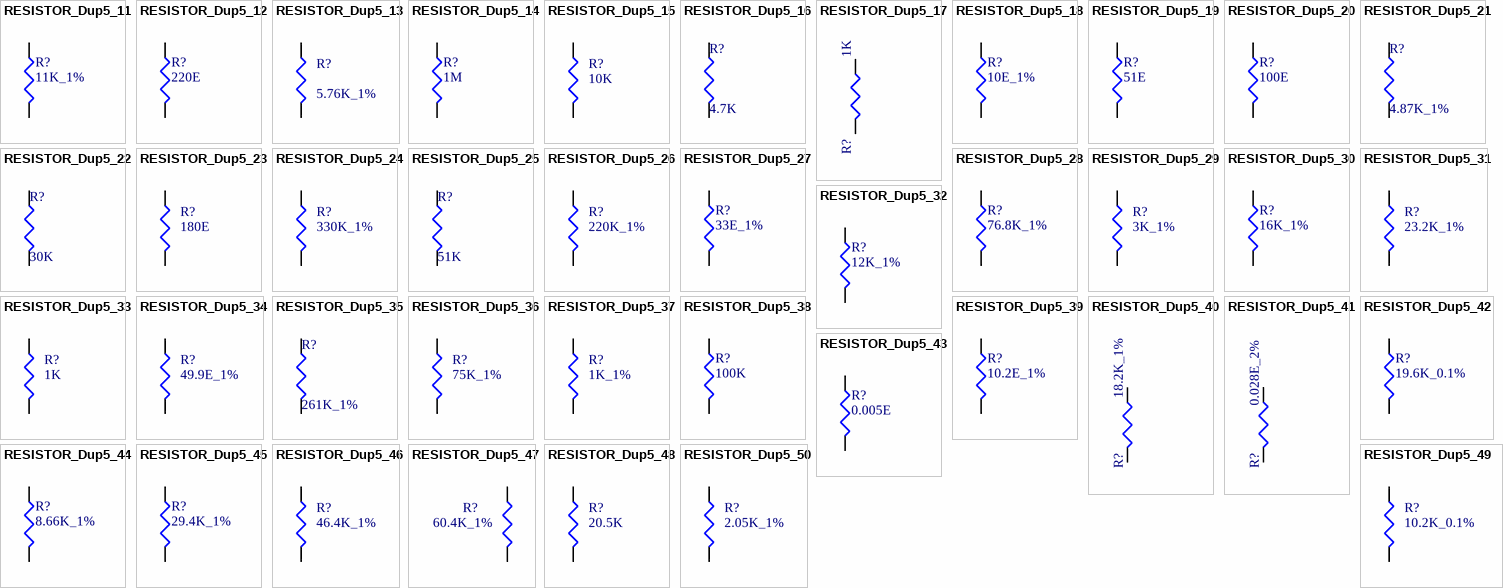
[diagram p17: symbols RESISTOR_Dup5_11 to RESISTOR_Dup5_50]

## RESISTOR_Dup5_11
designator R?, comment 11K_1%
RES 11K 1/16W 1% 0402; Mistral Part No: 110015110012-P; Mfr_name: YAGEO AMERICA; Mfr_part_number: RC0402FR-0711KL; Part_type: RESISTORS\FIXED; Project: TI_VLAN_SWITCH; Voltage: NA; Customs_HS_Code: 85332119; Custom_Duty: 15%; MECHANICAL 3D STEP FILE: RES0402_0-5; Library Ref: RESISTOR; Tolerance: 1%; Wattage: 1/16W; Package: 0402; Distributor_name: DIGIKEY; Distributor_part_number: 311-11.0KLRCT-ND; Height: 0.40MM; Weight: 0.65mg; Temperature: -55°C+155°C; Datasheet: Y:\MIS_DATABASE\DATASHEETS\RESISTORS\YAGEO-RC0402.PDF; Crtd /date: VASANTHA/251115; Chkd/date: VASANTHA/251115; RoHS: Pb-Free; PCB Footprint: RES0402_0-5
footprint RES0402_0-5
pins: 1, 2

## RESISTOR_Dup5_12
designator R?, comment 220E
RES 220E 1/16W 5% 0402; Mistral Part No: 110009030506-R; Mfr_name: PANASONIC-ECG; Mfr_part_number: ERJ-2GEJ221X; Part_type: RESISTORS\FIXED; MECHANICAL 3D STEP FILE: RES0402_0-5; Voltage: NA; Project: RED EYE; Customs_HS_Code: 85332119; Custom_Duty: 15%; Footprint Path: Y:\MIS_DATABASE\Library\ALTIUM_TOOL\PCB_FOOTPRINTS\Altium_Footprint_Lib.PcbLib; Library Path: Y:\MIS_DATABASE\Library\ALTIUM_TOOL\SCHEMATICS_PARTS\MS_DISCRETE_Library.schlib; Temperature: -55°C+155°C; Weight: 0.8g/1000pcs; PCB Footprint: RES0402_0-5; Library Ref: RESISTOR; Tolerance: 5%; Wattage: 1/16W; Package: 0402; Distributor_name: DIGIKEY; Distributor_part_number: P220JCT-ND; Height: 0.40MM; Datasheet: Y:\MIS_DATABASE\DATASHEETS\RESISTORS\ERJ12.PDF; Crtd /date: GEETHA/260406; Chkd/date: VASANTHA/291216
footprint RES0402_0-5
pins: 1, 2

## RESISTOR_Dup5_13
designator R?, comment 5.76K_1%
RES 5.76K 1/10W 1% 0402; Part_type: RESISTORS\FIXED; Mfr_part_number: ERJ-2RKF5761X; Mfr_name: PANASONIC-ECG; Mistral Part No: 110009030945-R; Custom_Duty: 15%; Customs_HS_Code: 85332119; Project: CPB; PCB Footprint: RES0402; Footprint Path: Y:\MIS_DATABASE\Library\ALTIUM_TOOL\PCB_FOOTPRINTS\Altium_Footprint_Lib.PcbLib; Library Path: Y:\MIS_DATABASE\Library\ALTIUM_TOOL\SCHEMATICS_PARTS\MS_DISCRETE_Library.schlib; Library Ref: RESISTOR; Chkd/date: MAZHAR/150709; Crtd /date: USMAN/220808; Datasheet: Y:\MIS_DATABASE\DATASHEETS\RESISTORS\PAN-ERJSERIES.PDF; Height: 0.40MM; Distributor_part_number: P5.76KLCT-ND; Distributor_name: DIGIKEY; Package: 0402; Wattage: 1/10W; Tolerance: 1%
footprint RES0402
pins: 1, 2

## RESISTOR_Dup5_14
designator R?, comment 1M
RES 1M 1/10W 5% 0603; Part_type: RESISTORS\FIXED; Mfr_part_number: ERJ-3GEYJ105V; Mfr_name: PANASONIC-ECG; Mistral Part No: 110009030413-R; Custom_Duty: 15%; Customs_HS_Code: 85332119; Voltage: NA; Project: BSN; MECHANICAL 3D STEP FILE: RES0603_0-75; Library Ref: RESISTOR; Chkd/date: VASANTHA/060217; Crtd /date: USMAN/111207; Datasheet: Y:\MIS_DATABASE\DATASHEETS\RESISTORS\PAN-ERJ-3GE.PDF; Temperature: -55°C+155°C; Weight: 2mg; Height: 0.55MM; Distributor_part_number: P1.0MGCT-ND; Distributor_name: DIGIKEY; Package: 0603; Wattage: 1/10W; Tolerance: 5%; PCB Footprint: RES0603_0-75
footprint RES0603_0-75
pins: 1, 2

## RESISTOR_Dup5_15
designator R?, comment 10K
RES 10K 1/20W 5% 0201; Mistral Part No: 110010070051-R; Mfr_name: NIC COMPONENTS; Mfr_part_number: NRC02J103TRF; Part_type: RESISTORS\FIXED; Alternate_mfr_name_A: KOA SPEER; Alternate_mfr_part_number_A: RK73B1HTTC103J; PCB Footprint: RES0201; Project: PB_BUGBASE; Voltage: 50V; Customs_HS_Code: 85332119; Custom_Duty: 15%; Library Ref: RESISTOR; Tolerance: 5%; Wattage: 1/20W; Package: 0201; Distributor_name: NA; Distributor_part_number: NA; Distributor_name_A: NA; Distributor_part_number_A: NA; Height: 0.30MM; Weight: NA; Temperature: -55°C+125°C; Datasheet: Y:\MIS_DATABASE\DATASHEETS\RESISTORS\NRC SERIES.PDF; Crtd /date: MUDDU/100710; Chkd/date: SUHAS/280910
footprint RES0201
pins: 1, 2

## RESISTOR_Dup5_16
designator R?, comment 4.7K
RES 4.7K 1/16W 5% 0402; Part_type: RESISTORS\FIXED; Mfr_part_number: RC0402JR-074K7L; Mfr_name: YAGEO AMERICA; Mistral Part No: 110009030792-R; Custom_Duty: 15%; Customs_HS_Code: 85332119; Voltage: NA; Project: TMDXCSK368; PCB Footprint: RES0402; Library Ref: RESISTOR; Chkd/date: VASANTHA/130516; Crtd /date: VASANTHA/130516; Datasheet: Y:\MIS_DATABASE\DATASHEETS\RESISTORS\YAGEO-RC0402.PDF; Temperature: -55°C+155°C; Weight: NA; Height: 0.55MM; Distributor_part_number: 311-4.7KJRCT-ND; Distributor_name: DIGIKEY; Package: 0402; Wattage: 1/16W; Tolerance: 5%
footprint RES0402
pins: 1, 2

## RESISTOR_Dup5_17
designator R?, comment 1K
RES 1K 1/16W 5% 0402; Mistral Part No: 110010120017-R; Mfr_name: VISHAY; Mfr_part_number: CRCW04021K00JNED; Part_type: RESISTORS\FIXED; Project: TE4; Voltage: NA; PCB Footprint: RES0402; Tolerance: 5%; Wattage: 1/16W; Package: 0402; Distributor_name: DIGIKEY; Distributor_part_number: 541-1.0KJCT-ND; Library Ref: RESISTOR; Height: 0.40MM; Weight: NA; Temperature: -55°C+155°C; Datasheet: Y:\MIS_DATABASE\DATASHEETS\RESISTORS\CRCW0603.PDF; Crtd /date: BAVISH/021210; Footprint Path: VALUE IS VAILABLE 2 TIMES
footprint RES0402
pins: 1, 2

## RESISTOR_Dup5_18
designator R?, comment 10E_1%
RES 10E 1/16W 1% 0402; Mistral Part No: 110018020004-R; Mfr_name: YAGEO AMERICA; Mfr_part_number: RC0402FR-0710RL; Part_type: RESISTORS\FIXED; PCB Footprint: RES0402_0-5; Project: TI_MAXIE_CPB; Voltage: NA; Customs_HS_Code: 85332119; Custom_Duty: 15%; Tolerance: 1%; Wattage: 1/16W; Package: 0402; Distributor_name: DIGIKEY; Distributor_part_number: 311-10.0LRCT-ND; Height: 0.40MM; Weight: 0.65mg; Temperature: -55°C+155°C; Datasheet: Y:\MIS_DATABASE\DATASHEETS\RESISTORS\YAGEO-RC0402.PDF; Crtd /date: ALVY/070218; Chkd/date: MANIRAJA/070218; MECHANICAL 3D STEP FILE: RES0402_0-5; Library Ref: RESISTOR
footprint RES0402_0-5
pins: 1, 2

## RESISTOR_Dup5_19
designator R?, comment 51E
RES 51E 1/16W 5% 0402; Part_type: RESISTORS\FIXED; Mfr_part_number: ERJ-2GEJ510X; Mfr_name: PANASONIC-ECG; Mistral Part No: 110009030962-R; PCB Footprint: RES0402; Custom_Duty: 15%; Customs_HS_Code: 85332119; Project: CTP02_REVA_BASE; Chkd/date: SHREESHAIL/131205; Crtd /date: MAZHAR/120505; Datasheet: Y:\MIS_DATABASE\DATASHEETS\RESISTORS\ERJ12.PDF; Height: 0.40MM; Distributor_part_number: P51JTR-ND; Distributor_name: DIGIKEY; Package: 0402; Wattage: 1/16W; Tolerance: 5%; Library Ref: RESISTOR
footprint RES0402
pins: 1, 2

## RESISTOR_Dup5_20
designator R?, comment 100E
RES 100E 1/16W 5% 0402; Part_type: RESISTORS\FIXED; Mfr_part_number: CRCW0402100RJNED; Mfr_name: VISHAY; Mistral Part No: 110009030164-R; MECHANICAL 3D STEP FILE: RES0402_0-5; Custom_Duty: 15%; Customs_HS_Code: 85332119; Voltage: NA; Project: TI_MAXIE_CPB; Chkd/date: MANIRAJA/230817; Crtd /date: MANIRAJA/230817; Datasheet: Y:\MIS_DATABASE\DATASHEETS\RESISTORS\CRCW0603.PDF; Temperature: -55°C+155°C; Weight: 0.65mg; Height: 0.40MM; Distributor_part_number: 541-100JCT-ND; Distributor_name: DIGIKEY; Package: 0402; Wattage: 1/16W; Tolerance: 5%; PCB Footprint: RES0402_0-5; Library Ref: RESISTOR
footprint RES0402_0-5
pins: 1, 2

## RESISTOR_Dup5_21
designator R?, comment 4.87K_1%
RES 4.87K 1/16W 1% 0402; Mistral Part No: 110009030803-R; Mfr_name: PANASONIC-ECG; Mfr_part_number: ERJ2RKF4871X; Part_type: RESISTORS\FIXED; PCB Footprint: RES0402; Project: BSN-II; Customs_HS_Code: 85332119; Custom_Duty: 15%; Voltage: NA; Tolerance: 1%; Wattage: 1/16W; Package: 0402; Distributor_name: DIGIKEY; Distributor_part_number: P4.87KLCT-ND; Height: 0.40MM; Datasheet: Y:\MIS_DATABASE\DATASHEETS\RESISTORS\PAN-ERJSERIES.PDF; Crtd /date: USMAN/150109; Chkd/date: MAZHAR/150709; Library Ref: RESISTOR; Footprint Ref: RES0402; Weight: 0.8mg; Temperature: -55°C+155°C; Library Path: Y:\MIS_DATABASE\Library\ALTIUM_TOOL\SCHEMATICS_PARTS\MS_DISCRETE_Library.schlib; Footprint Path: Y:\MIS_DATABASE\Library\ALTIUM_TOOL\PCB_FOOTPRINTS\Altium_Footprint_Lib.PcbLib
footprint RES0402
pins: 1, 2

## RESISTOR_Dup5_22
designator R?, comment 30K
RES 30K 1/16W 5% 0402; Mistral Part No: 110017080023-R; Mfr_name: VISHAY; Mfr_part_number: CRCW040230K0JNED; Part_type: RESISTORS\FIXED; PCB Footprint: RES0402_0-5; Project: TI_MAXIE_CPB; Voltage: NA; Customs_HS_Code: 85332119; Custom_Duty: 15%; Tolerance: 5%; Wattage: 1/16W; Package: 0402; Distributor_name: DIGIKEY; Distributor_part_number: 541-30KJCT-ND; Height: 0.40MM; Weight: 0.65mg; Temperature: -55°C+155°C; Datasheet: Y:\MIS_DATABASE\DATASHEETS\RESISTORS\CRCW0603.PDF; Crtd /date: MANIRAJA/230817; Chkd/date: MANIRAJA/230817; MECHANICAL 3D STEP FILE: RES0402_0-5; Library Ref: RESISTOR
footprint RES0402_0-5
pins: 1, 2

## RESISTOR_Dup5_23
designator R?, comment 180E
RES 180E 1/16W 5% 0402; Mistral Part No: 110009030371-R; Mfr_name: PANASONIC-ECG; Mfr_part_number: ERJ-2GEJ181X; Part_type: RESISTORS\FIXED; Project: RED EYE; Customs_HS_Code: 85332119; Custom_Duty: 15%; PCB Footprint: RES0402; Voltage: NA; Tolerance: 5%; Wattage: 1/16W; Package: 0402; Distributor_name: DIGIKEY; Distributor_part_number: P180JCT-ND; Height: 0.40MM; Datasheet: Y:\MIS_DATABASE\DATASHEETS\RESISTORS\ERJ12.PDF; Crtd /date: GEETHA/280406; Chkd/date: MAZHAR/150709; Library Ref: RESISTOR; Footprint Ref: RES0402; Weight: 0.8mg; Temperature: -55°C+155°C; Library Path: Y:\MIS_DATABASE\Library\ALTIUM_TOOL\SCHEMATICS_PARTS\MS_DISCRETE_Library.schlib; Footprint Path: Y:\MIS_DATABASE\Library\ALTIUM_TOOL\PCB_FOOTPRINTS\Altium_Footprint_Lib.PcbLib
footprint RES0402
pins: 1, 2

## RESISTOR_Dup5_24
designator R?, comment 330K_1%
RES 330K 1/16W 1% 0402; Part_type: RESISTORS\FIXED; Mfr_part_number: CRCW0402330KFKED; Mfr_name: VISHAY; Mistral Part No: 110017080024-R; MECHANICAL 3D STEP FILE: RES0402_0-5; Custom_Duty: 15%; Customs_HS_Code: 85332119; Voltage: NA; Project: TI_MAXIE_CPB; Chkd/date: MANIRAJA/230817; Crtd /date: MANIRAJA/230817; Datasheet: Y:\MIS_DATABASE\DATASHEETS\RESISTORS\CRCW0603.PDF; Temperature: -55°C+155°C; Weight: 0.65mg; Height: 0.40MM; Distributor_part_number: 541-330KLCT-ND; Distributor_name: DIGIKEY; Package: 0402; Wattage: 1/16W; Tolerance: 1%; PCB Footprint: RES0402_0-5; Library Ref: RESISTOR; Footprint Ref: RES0402_0-5; Library Path: Y:\MIS_DATABASE\Library\ALTIUM_TOOL\SCHEMATICS_PARTS\MS_DISCRETE_Library.schlib; Footprint Path: Y:\MIS_DATABASE\Library\ALTIUM_TOOL\PCB_FOOTPRINTS\Altium_Footprint_Lib.PcbLib
footprint RES0402_0-5
pins: 1, 2

## RESISTOR_Dup5_25
designator R?, comment 51K
RES 51K 1/16W 5% 0402; Mistral Part No: 110009030966-R; Mfr_name: VISHAY; Mfr_part_number: CRCW040251K0JNED; Part_type: RESISTORS\FIXED; Project: TI_MAXIE_CPB; Voltage: NA; Customs_HS_Code: 85332119; Custom_Duty: 15%; MECHANICAL 3D STEP FILE: RES0402_0-5; Tolerance: 5%; Wattage: 1/16W; Package: 0402; Distributor_name: DIGIKEY; Distributor_part_number: 541-51KJCT-ND; Height: 0.40MM; Weight: 0.65mg; Temperature: -55°C+155°C; Datasheet: Y:\MIS_DATABASE\DATASHEETS\RESISTORS\CRCW0603.PDF; Crtd /date: MANIRAJA/230817; Chkd/date: MANIRAJA/230817; PCB Footprint: RES0402_0-5; Library Ref: RESISTOR
footprint RES0402_0-5
pins: 1, 2

## RESISTOR_Dup5_26
designator R?, comment 220K_1%
RES 220K 1/16W 1% 0402; Part_type: RESISTORS\FIXED; Mfr_part_number: CRCW0402220KFKED; Mfr_name: VISHAY; Mistral Part No: 110017080025-R; MECHANICAL 3D STEP FILE: RES0402_0-5; Custom_Duty: 15%; Customs_HS_Code: 85332119; Voltage: NA; Project: TI_MAXIE_CPB; Chkd/date: MANIRAJA/230817; Crtd /date: MANIRAJA/230817; Datasheet: Y:\MIS_DATABASE\DATASHEETS\RESISTORS\CRCW0603.PDF; Temperature: -55°C+155°C; Weight: 0.65mg; Height: 0.40MM; Distributor_part_number: 541-220KLCT-ND; Distributor_name: DIGIKEY; Package: 0402; Wattage: 1/16W; Tolerance: 1%; PCB Footprint: RES0402_0-5; Library Ref: RESISTOR
footprint RES0402_0-5
pins: 1, 2

## RESISTOR_Dup5_27
designator R?, comment 33E_1%
RES 33E 1/16W 1% 0402; Mistral Part No: 110014110006-R; Mfr_name: PANASONIC-ECG; Mfr_part_number: ERJ-2RKF33R0X; Part_type: RESISTORS\FIXED; Project: ZK BIOMETRIC; Voltage: NA; Customs_HS_Code: 85332119; Custom_Duty: 15%; MECHANICAL 3D STEP FILE: RES0402_0-5; Library Ref: RESISTOR; Tolerance: 1%; Wattage: 1/16W; Package: 0402; Distributor_name: DIGIKEY; Distributor_part_number: P33.0LCT-ND; Height: 0.40MM; Weight: 0.8g/1000pcs; Temperature: -55°C+125°C; Datasheet: Y:\MIS_DATABASE\DATASHEETS\RESISTORS\PAN-ERJSERIES.PDF; Crtd /date: JEBRAN/171114; Chkd/date: VASANTHA/061216; PCB Footprint: RES0402_0-5
footprint RES0402_0-5
pins: 1, 2

## RESISTOR_Dup5_28
designator R?, comment 76.8K_1%
RES 76.8K 1/16W 1% 0402; Part_type: RESISTORS\FIXED; Mfr_part_number: RC0402FR-0776K8L; Mfr_name: YAGEO AMERICA; Mistral Part No: 110016060005-R; Custom_Duty: 15%; Customs_HS_Code: 85332119; Voltage: NA; Project: TMDXCSKCC; PCB Footprint: RES0402; Chkd/date: VASANTHA/140616; Crtd /date: VASANTHA/140616; Datasheet: Y:\MIS_DATABASE\DATASHEETS\RESISTORS\YAGEO-RC0402.PDF; Temperature: -55°C+155°C; Weight: NA; Height: 0.55MM; Distributor_part_number: YAG3230CT-ND; Distributor_name: DIGIKEY; Package: 0402; Wattage: 1/16W; Tolerance: 1%; Library Ref: RESISTOR
footprint RES0402
pins: 1, 2

## RESISTOR_Dup5_29
designator R?, comment 3K_1%
RES 3K 1/16W 1% 0402; Part_type: RESISTORS\FIXED; Mfr_part_number: RC0402FR-073KL; Mfr_name: YAGEO AMERICA; Mistral Part No: 110017110004-R; MECHANICAL 3D STEP FILE: RES0402_0-5; Custom_Duty: 15%; Customs_HS_Code: 85332119; Voltage: NA; Project: TI_SVB_MAXWELL_DUT; Chkd/date: MANIRAJA/101117; Crtd /date: MANIRAJA/101117; Datasheet: Y:\MIS_DATABASE\DATASHEETS\RESISTORS\YAGEO.PDF; Temperature: -55°C+155°C; Weight: 0.65mg; Height: 0.40MM; Distributor_part_number: 311-3KLRCT-ND; Distributor_name: DIGIKEY; Package: 0402; Wattage: 1/16W; Tolerance: 1%; PCB Footprint: RES0402_0-5; Library Ref: RESISTOR
footprint RES0402_0-5
pins: 1, 2

## RESISTOR_Dup5_30
designator R?, comment 16K_1%
RES 16K 1/16W 1% 0402; Mistral Part No: 110011030003-R; Mfr_name: ROHM; Mfr_part_number: MCR01MRTF1602; Part_type: RESISTORS\FIXED; Project: TMDXCSKCC; Voltage: NA; Customs_HS_Code: 85332119; Custom_Duty: 15%; PCB Footprint: RES0402; Tolerance: 1%; Wattage: 1/16W; Package: 0402; Distributor_name: DIGIKEY; Distributor_part_number: RHM16KCDCT-ND; Height: 0.40MM; Weight: NA; Temperature: -55°C+155°C; Datasheet: Y:\MIS_DATABASE\DATASHEETS\RESISTORS\MCR01MRTF1211.PDF; Crtd /date: VASANTHA/040616; Chkd/date: VASANTHA/040616; Library Ref: RESISTOR
footprint RES0402
pins: 1, 2

## RESISTOR_Dup5_31
designator R?, comment 23.2K_1%
RES 23.2K 1/16W 1% 0402; Mistral Part No: 110015080017-R; Mfr_name: VISHAY; Mfr_part_number: CRCW040223K2FKED; Part_type: RESISTORS\FIXED; Cust_part_number: 4700-80154E; Project: OCTASIC_3000; Voltage: NA; Customs_HS_Code: 85332119; Custom_Duty: 15%; PCB Footprint: RES0402; Tolerance: 1%; Wattage: 1/16W; Package: 0402; Distributor_name: DIGIKEY; Distributor_part_number: 541-23.2KLCT-ND; Height: 0.40MM; Weight: NA; Temperature: -55°C+155°C; Datasheet: Y:\MIS_DATABASE\DATASHEETS\RESISTORS\CRCW0603.PDF; Crtd /date: JEBRAN/110815; Chkd/date: JEBRAN/110815; Library Ref: RESISTOR
footprint RES0402
pins: 1, 2

## RESISTOR_Dup5_32
designator R?, comment 12K_1%
RES 12K 1/16W 1% 0402; Part_type: RESISTORS\FIXED; Mfr_part_number: ERJ-2RKF1202X; Mfr_name: PANASONIC-ECG; Mistral Part No: 110009030289-R; PCB Footprint: RES0402; Custom_Duty: 15%; Customs_HS_Code: 85332119; Voltage: NA; Project: TI_C5545; Chkd/date: VASANTHA/041215; Crtd /date: VASANTHA/041215; Datasheet: Y:\MIS_DATABASE\DATASHEETS\RESISTORS\PAN-ERJSERIES.PDF; Temperature: -55°C+155°C; Weight: NA; Height: 0.40MM; Distributor_part_number: P12.0KLCT-ND; Distributor_name: DIGIKEY; Package: 0402; Wattage: 1/16W; Tolerance: 1%; Library Ref: RESISTOR
footprint RES0402
pins: 1, 2

## RESISTOR_Dup5_33
designator R?, comment 1K
RES 1K 1/20W 5% 0201; Mistral Part No: 110015080014-R; Mfr_name: VISHAY; Mfr_part_number: CRCW02011K00FKED; Part_type: RESISTORS\FIXED; PCB Footprint: RES0201; Project: OCTASIC_3000; Voltage: NA; Customs_HS_Code: 85332119; Custom_Duty: 15%; Tolerance: 5%; Wattage: 1/20W; Package: 0201; Distributor_name: DIGIKEY; Distributor_part_number: 541-1.00KAABCT-ND; Height: 0.28MM; Weight: NA; Temperature: -55°C+155°C; Datasheet: Y:\MIS_DATABASE\DATASHEETS\RESISTORS\CRCW0201.PDF; Crtd /date: JEBRAN/110815; Chkd/date: JEBRAN/110815; Library Ref: RESISTOR
footprint RES0201
pins: 1, 2

## RESISTOR_Dup5_34
designator R?, comment 49.9E_1%
RES 49.9E 1/20W 1% 0201; Part_type: RESISTORS\FIXED; Mfr_part_number: ERJ-1GEF49R9C; Mfr_name: PANASONIC-ECG; Mistral Part No: 110009030893-R; Custom_Duty: 15%; Customs_HS_Code: 85332119; Project: V8TS; PCB Footprint: RES0201; Library Ref: RESISTOR; Footprint Path: Y:\MIS_DATABASE\Library\ALTIUM_TOOL\PCB_FOOTPRINTS\Altium_Footprint_Lib.PcbLib; Library Path: Y:\MIS_DATABASE\Library\ALTIUM_TOOL\SCHEMATICS_PARTS\MS_DISCRETE_Library.schlib; Chkd/date: MAZHAR/140709; Crtd /date: MAZHAR/300807; Datasheet: Y:\MIS_DATABASE\DATASHEETS\RESISTORS\ERJ-1G.PDF; Height: 0.26MM; Distributor_part_number: P49.9ABCT-ND; Distributor_name: DIGIKEY; Package: 0201; Wattage: 1/20W; Tolerance: 1%
footprint RES0201
pins: 1, 2

## RESISTOR_Dup5_35
designator R?, comment 261K_1%
RES 261K 1/16W 1% 0402; Mistral Part No: 110015080042-R; Mfr_name: YAGEO AMERICA; Mfr_part_number: RC0402FR-07261KL; Part_type: RESISTORS\FIXED; PCB Footprint: RES0402_0-5; Project: OCTBTS3600; Voltage: NA; Customs_HS_Code: 85332119; Custom_Duty: 15%; Library Ref: RESISTOR; Tolerance: 1%; Wattage: 1/16W; Package: 0402; Distributor_name: DIGIKEY; Distributor_part_number: 311-261KLRCT-ND; Height: 0.40MM; Weight: 0.65mg; Temperature: -55°C+155°C; Datasheet: Y:\MIS_DATABASE\DATASHEETS\RESISTORS\YAGEO.PDF; Crtd /date: JEBRAN/250815; Chkd/date: MANIRAJA/101017; MECHANICAL 3D STEP FILE: RES0402_0-5
footprint RES0402_0-5
pins: 1, 2